# EAGLE library part ADP-2-10 (library minicircuits)
Power Splitter/Combiner 2 Way-0° 50 R Aqueous washable. For non-aquesous requirements, LRPS units available in case style QQQ130 Internal load dissipation: 0.125 Watt Matched power rating: 0.5 Watt Non-hermetic ADP-2-10 2 Way-0° Frequency MHz Isolation, dB Insertion Loss, dB Above 3.0dB Phase Unbalance Degrees Amplitude Unbalance, dB Power Input, W fL - fU L Typ. Min. M Typ. Min. U Typ. Min. L Typ. Max. M Typ. Max. U Typ. Max. L Max. M Max. U Max. L Max. M Max. U Max. as Combiner Max. as Splitter Max. 5.00-1000 25 15 23 15 20 15 0.30 0.90 0.40 0.90 0.60 1.20 2.00 2.00 3.00 0.20 0.20 0.30 0.50 L=low range(fL to 10fL) M=mid range(10fL to fU/2) U=upper range(fU/2 to fU) FREQ (MHz) Insertion Loss Amplitude Unbalance (dB) Isolation Phase Unbalance (Degrees) FREQ (MHz) VSWR S VSWR 1 VSWR 2 (dB) S-1 (dB) S-2 (dB) 1-2 5.000 3.22 3.23 0.010 22.55 0.06 5.00 1.04 1.24 1.24 5.500 3.24 3.23 0.000 23.00 0.03 5.50 1.04 1.23 1.23 6.000 3.22 3.22 0.010 23.37 0.10 6.00 1.03 1.22 1.22 6.500 3.23 3.23 0.000 23.72 0.00 6.50 1.03 1.22 1.22 7.000 3.23 3.23 0.000 24.03 0.06 7.00 1.03 1.21 1.21 7.500 3.23 3.23 0.010 24.31 0.03 7.50 1.03 1.21 1.21 8.000 3.23 3.23 0.000 24.55 0.03 8.00 1.03 1.20 1.20 8.500 3.22 3.22 0.000 24.77 0.04 8.50 1.03 1.20 1.20 9.000 3.23 3.23 0.000 24.97 0.04 9.00 1.03 1.19 1.19 9.500 3.22 3.23 0.000 25.15 0.03 9.50 1.03 1.19 1.19 10.00 3.23 3.23 0.000 25.33 0.03 10.00 1.03 1.19 1.19 15.00 3.22 3.22 0.000 26.32 0.04 15.00 1.03 1.17 1.17 20.00 3.23 3.22 0.010 26.71 0.06 20.00 1.03 1.17 1.17 25.00 3.23 3.23 0.000 26.82 0.02 25.00 1.03 1.16 1.16 30.00 3.24 3.24 0.010 26.82 0.05 30.00 1.03 1.16 1.16 40.00 3.26 3.26 0.000 26.75 0.14 40.00 1.03 1.16 1.16 50.00 3.26 3.26 0.000 26.58 0.06 50.00 1.03 1.16 1.16 60.00 3.28 3.27 0.010 26.40 0.05 60.00 1.04 1.16 1.16 70.00 3.28 3.29 0.010 26.21 0.07 70.00 1.04 1.16 1.16 80.00 3.28 3.28 0.000 26.00 0.14 80.00 1.04 1.16 1.16 90.00 3.27 3.29 0.020 25.80 0.07 90.00 1.05 1.16 1.16 100.00 3.28 3.28 0.000 25.58 0.15 100.00 1.05 1.16 1.16 150.00 3.32 3.33 0.010 24.51 0.21 150.00 1.07 1.16 1.16 200.00 3.37 3.37 0.000 23.58 0.34 200.00 1.09 1.16 1.15 250.00 3.36 3.36 0.010 22.61 0.39 250.00 1.11 1.16 1.15 300.00 3.43 3.43 0.000 21.92 0.46 300.00 1.13 1.16 1.15 350.00 3.41 3.41 0.000 21.19 0.57 350.00 1.14 1.16 1.14 400.00 3.51 3.49 0.020 20.71 0.53 400.00 1.15 1.16 1.13 450.00 3.49 3.48 0.000 20.24 0.66 450.00 1.16 1.15 1.12 500.00 3.52 3.51 0.010 19.88 0.61 500.00 1.17 1.15 1.11 550.00 3.56 3.54 0.020 19.64 0.76 550.00 1.18 1.14 1.10 600.00 3.56 3.56 0.000 19.43 0.70 600.00 1.18 1.13 1.09 650.00 3.60 3.58 0.020 19.39 0.75 650.00 1.18 1.12 1.07 700.00 3.63 3.61 0.020 19.44 0.92 700.00 1.18 1.11 1.06 750.00 3.66 3.65 0.010 19.60 0.73 750.00 1.17 1.10 1.05 800.00 3.72 3.71 0.020 19.90 0.81 800.00 1.17 1.09 1.05 850.00 3.70 3.68 0.020 20.39 0.92 850.00 1.16 1.09 1.06 900.00 3.75 3.75 0.010 20.93 0.86 900.00 1.16 1.09 1.08 950.00 3.79 3.76 0.030 21.81 0.69 950.00 1.16 1.10 1.11 1000.00 3.91 3.89 0.020 22.86 0.89 1000.00 1.17 1.12 1.14
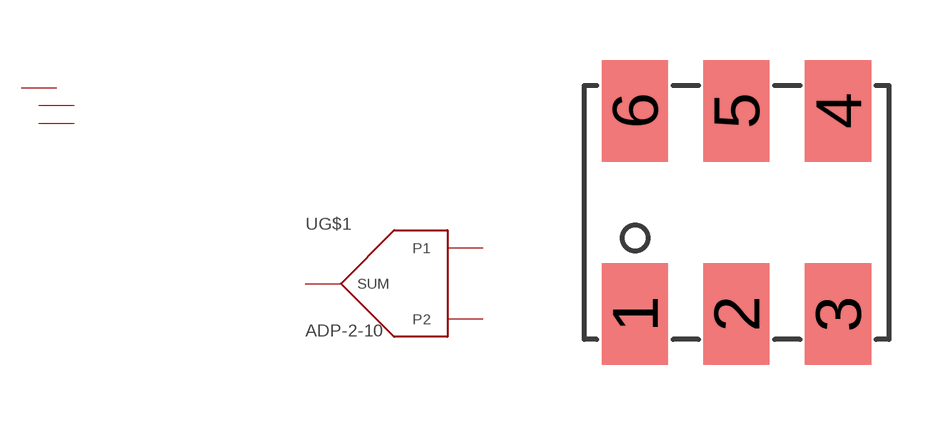
[diagram p17: symbol with the pads of CD636; footprint CD636]

Designator prefix -; gates G$1=POWER_SPLITTER-2W G$2=GND G$3=GND G$4=GND

## ADP-2-10  [CD636]
1  G$1:SUM
2  G$3:GND  pwr
3  G$1:P1
4  G$1:P2
5  G$4:GND  pwr
6  G$2:GND  pwr

## Footprint CD636 (pad centres in mm)
CD636 http://www.minicircuits.com/cgi-bin/inquery.cgi?querystring=CD636&searchtype=case&x=21&y=7
smd 1.651 x 2.54: 1 0,0; 2 2.54,0; 3 5.08,0; 4 5.08,5.08; 5 2.54,5.08; 6 0,5.08